# EAGLE library part 0TG-LIB-V01.4_HAPTIC_DRIVER_DRV2605 (library TG-Watch02B-rev04)
DRV2605 - Haptic Driver for ERM/LRA Motors
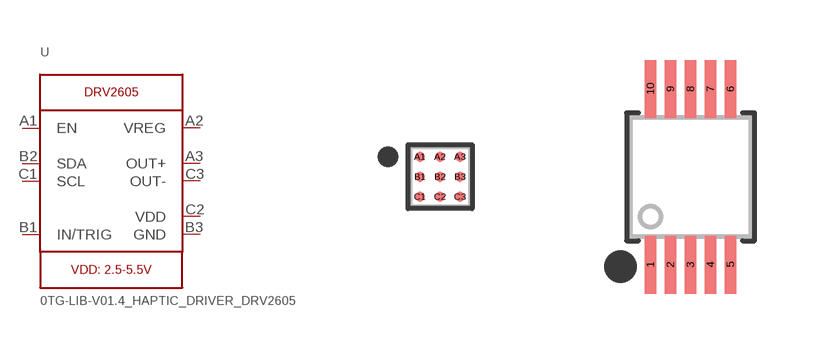
[diagram p1: symbol with the pads of 0TG-LIB-V01.4_MICROBUILDER_S-XBGA-N9; footprints 0TG-LIB-V01.4_MICROBUILDER_S-XBGA-N9, 0TG-LIB-V01.4_MICROBUILDER_PSOP10]

Designator prefix U

## 0TG-LIB-V01.4_HAPTIC_DRIVER_DRV2605_BGA  [0TG-LIB-V01.4_MICROBUILDER_S-XBGA-N9]
A1  EN  in
A2  VREG  out
A3  OUT+  out
B1  IN/TRIG  in
B2  SDA
B3  GND  pwr
C1  SCL  in
C2  VDD  pwr
C3  OUT-  out

## 0TG-LIB-V01.4_HAPTIC_DRIVER_DRV2605_SOP  [0TG-LIB-V01.4_MICROBUILDER_PSOP10]
1  VREG  out
2  SCL  in
3  SDA
4  IN/TRIG  in
5  EN  in
6  VDD  pwr
7  OUT+  out
8  GND  pwr
9  OUT-  out
10  VDD  pwr

## Footprint 0TG-LIB-V01.4_MICROBUILDER_S-XBGA-N9 (pad centres in mm)
smd 0.25 x 0.25: A1 -0.5,0.5; A2 0,0.5; A3 0.5,0.5; B1 -0.5,0; B2 0,0; B3 0.5,0; C1 -0.5,-0.5; C2 0,-0.5; C3 0.5,-0.5

## Footprint 0TG-LIB-V01.4_MICROBUILDER_PSOP10 (pad centres in mm)
Source: http://www.ti.com/lit/ds/symlink/drv2605l.pdf
smd 0.28 x 1.45: 1 -1,-2.2; 2 -0.5,-2.2; 3 0,-2.2; 4 0.5,-2.2; 5 1,-2.2; 6 1,2.2; 7 0.5,2.2; 8 0,2.2; 9 -0.5,2.2; 10 -1,2.2